# EAGLE library part CON_02X100 (library PP_Connectors)
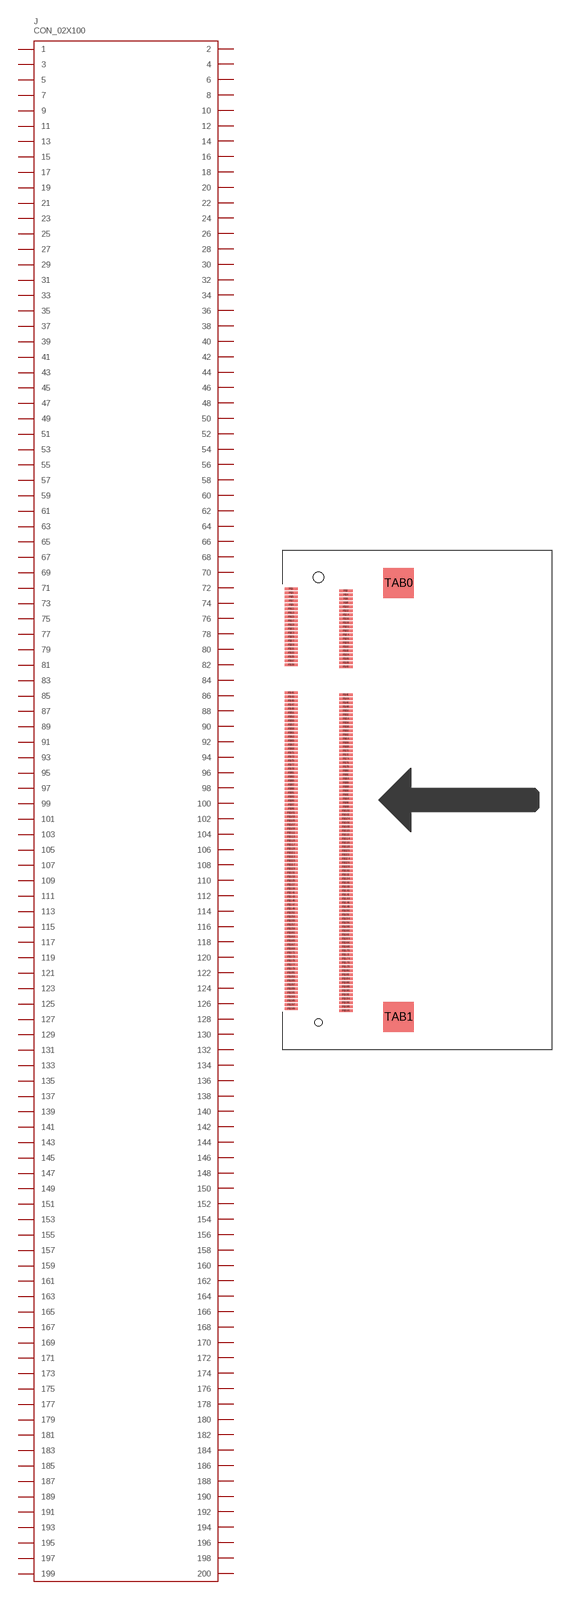
[diagram p25: symbol with the pads of 1473149-4; footprint 1473149-4]

Designator prefix J

## CON_02X100_1473149-4  [1473149-4]
P$1  1
P$2  2
P$3  3
P$4  4
P$5  5
P$6  6
P$7  7
P$8  8
P$9  9
P$10  10
P$11  11
P$12  12
P$13  13
P$14  14
P$15  15
P$16  16
P$17  17
P$18  18
P$19  19
P$20  20
P$21  21
P$22  22
P$23  23
P$24  24
P$25  25
P$26  26
P$27  27
P$28  28
P$29  29
P$30  30
P$31  31
P$32  32
P$33  33
P$34  34
P$35  35
P$36  36
P$37  37
P$38  38
P$39  39
P$40  40
P$41  41
P$42  42
P$43  43
P$44  44
P$45  45
P$46  46
P$47  47
P$48  48
P$49  49
P$50  50
P$51  51
P$52  52
P$53  53
P$54  54
P$55  55
P$56  56
P$57  57
P$58  58
P$59  59
P$60  60
P$61  61
P$62  62
P$63  63
P$64  64
P$65  65
P$66  66
P$67  67
P$68  68
P$69  69
P$70  70
P$71  71
P$72  72
P$73  73
P$74  74
P$75  75
P$76  76
P$77  77
P$78  78
P$79  79
P$80  80
P$81  81
P$82  82
P$83  83
P$84  84
P$85  85
P$86  86
P$87  87
P$88  88
P$89  89
P$90  90
P$91  91
P$92  92
P$93  93
P$94  94
P$95  95
P$96  96
P$97  97
P$98  98
P$99  99
P$100  100
P$101  101
P$102  102
P$103  103
P$104  104
P$105  105
P$106  106
P$107  107
P$108  108
P$109  109
P$110  110
P$111  111
P$112  112
P$113  113
P$114  114
P$115  115
P$116  116
P$117  117
P$118  118
P$119  119
P$120  120
P$121  121
P$122  122
P$123  123
P$124  124
P$125  125
P$126  126
P$127  127
P$128  128
P$129  129
P$130  130
P$131  131
P$132  132
P$133  133
P$134  134
P$135  135
P$136  136
P$137  137
P$138  138
P$139  139
P$140  140
P$141  141
P$142  142
P$143  143
P$144  144
P$145  145
P$146  146
P$147  147
P$148  148
P$149  149
P$150  150
P$151  151
P$152  152
P$153  153
P$154  154
P$155  155
P$156  156
P$157  157
P$158  158
P$159  159
P$160  160
P$161  161
P$162  162
P$163  163
P$164  164
P$165  165
P$166  166
P$167  167
P$168  168
P$169  169
P$170  170
P$171  171
P$172  172
P$173  173
P$174  174
P$175  175
P$176  176
P$177  177
P$178  178
P$179  179
P$180  180
P$181  181
P$182  182
P$183  183
P$184  184
P$185  185
P$186  186
P$187  187
P$188  188
P$189  189
P$190  190
P$191  191
P$192  192
P$193  193
P$194  194
P$195  195
P$196  196
P$197  197
P$198  198
P$199  199
P$200  200

## Footprint 1473149-4 (pad centres in mm)
smd 2 x 0.35: P$1 -4.1,31.65; P$2 4.1,31.35; P$3 -4.1,31.05; P$4 4.1,30.75; P$5 -4.1,30.45; P$6 4.1,30.15; P$7 -4.1,29.85; P$8 4.1,29.55; P$9 -4.1,29.25; P$10 4.1,28.95; P$11 -4.1,28.65; P$12 4.1,28.35; P$13 -4.1,28.05; P$14 4.1,27.75; P$15 -4.1,27.45; P$16 4.1,27.15; P$17 -4.1,26.85; P$18 4.1,26.55; P$19 -4.1,26.25; P$20 4.1,25.95; P$21 -4.1,25.65; P$22 4.1,25.35; P$23 -4.1,25.05; P$24 4.1,24.75; P$25 -4.1,24.45; P$26 4.1,24.15; P$27 -4.1,23.85; P$28 4.1,23.55; P$29 -4.1,23.25; P$30 4.1,22.95; P$31 -4.1,22.65; P$32 4.1,22.35; P$33 -4.1,22.05; P$34 4.1,21.75; P$35 -4.1,21.45; P$36 4.1,21.15; P$37 -4.1,20.85; P$38 4.1,20.55; P$39 -4.1,20.25; P$40 4.1,19.95; P$41 -4.1,16.05; P$42 4.1,15.75; P$43 -4.1,15.45; P$44 4.1,15.15; P$45 -4.1,14.85; P$46 4.1,14.55; P$47 -4.1,14.25; P$48 4.1,13.95; P$49 -4.1,13.65; P$50 4.1,13.35; P$51 -4.1,13.05; P$52 4.1,12.75; P$53 -4.1,12.45; P$54 4.1,12.15; P$55 -4.1,11.85; P$56 4.1,11.55; P$57 -4.1,11.25; P$58 4.1,10.95; P$59 -4.1,10.65; P$60 4.1,10.35; P$61 -4.1,10.05; P$62 4.1,9.75; P$63 -4.1,9.45; P$64 4.1,9.15; P$65 -4.1,8.85; P$66 4.1,8.55; P$67 -4.1,8.25; P$68 4.1,7.95; P$69 -4.1,7.65; P$70 4.1,7.35; P$71 -4.1,7.05; P$72 4.1,6.75; P$73 -4.1,6.45; P$74 4.1,6.15; P$75 -4.1,5.85; P$76 4.1,5.55; P$77 -4.1,5.25; P$78 4.1,4.95; P$79 -4.1,4.65; P$80 4.1,4.35; P$81 -4.1,4.05; P$82 4.1,3.75; P$83 -4.1,3.45; P$84 4.1,3.15; P$85 -4.1,2.85; P$86 4.1,2.55; P$87 -4.1,2.25; P$88 4.1,1.95; P$89 -4.1,1.65; P$90 4.1,1.35; P$91 -4.1,1.05; P$92 4.1,0.75; P$93 -4.1,0.45; P$94 4.1,0.15; P$95 -4.1,-0.15; P$96 4.1,-0.45; P$97 -4.1,-0.75; P$98 4.1,-1.05; P$99 -4.1,-1.35; P$100 4.1,-1.65; P$101 -4.1,-1.95; P$102 4.1,-2.25; P$103 -4.1,-2.55; P$104 4.1,-2.85; P$105 -4.1,-3.15; P$106 4.1,-3.45; P$107 -4.1,-3.75; P$108 4.1,-4.05; P$109 -4.1,-4.35; P$110 4.1,-4.65; P$111 -4.1,-4.95; P$112 4.1,-5.25; P$113 -4.1,-5.55; P$114 4.1,-5.85; P$115 -4.1,-6.15; P$116 4.1,-6.45; P$117 -4.1,-6.75; P$118 4.1,-7.05; P$119 -4.1,-7.35; P$120 4.1,-7.65; P$121 -4.1,-7.95; P$122 4.1,-8.25; P$123 -4.1,-8.55; P$124 4.1,-8.85; P$125 -4.1,-9.15; P$126 4.1,-9.45; P$127 -4.1,-9.75; P$128 4.1,-10.05; P$129 -4.1,-10.35; P$130 4.1,-10.65; P$131 -4.1,-10.95; P$132 4.1,-11.25; P$133 -4.1,-11.55; P$134 4.1,-11.85; P$135 -4.1,-12.15; P$136 4.1,-12.45; P$137 -4.1,-12.75; P$138 4.1,-13.05; P$139 -4.1,-13.35; P$140 4.1,-13.65; P$141 -4.1,-13.95; P$142 4.1,-14.25; P$143 -4.1,-14.55; P$144 4.1,-14.85; P$145 -4.1,-15.15; P$146 4.1,-15.45; P$147 -4.1,-15.75; P$148 4.1,-16.05; P$149 -4.1,-16.35; P$150 4.1,-16.65; P$151 -4.1,-16.95; P$152 4.1,-17.25; P$153 -4.1,-17.55; P$154 4.1,-17.85; P$155 -4.1,-18.15; P$156 4.1,-18.45; P$157 -4.1,-18.75; P$158 4.1,-19.05; P$159 -4.1,-19.35; P$160 4.1,-19.65; P$161 -4.1,-19.95; P$162 4.1,-20.25; P$163 -4.1,-20.55; P$164 4.1,-20.85; P$165 -4.1,-21.15; P$166 4.1,-21.45; P$167 -4.1,-21.75; P$168 4.1,-22.05; P$169 -4.1,-22.35; P$170 4.1,-22.65; P$171 -4.1,-22.95; P$172 4.1,-23.25; P$173 -4.1,-23.55; P$174 4.1,-23.85; P$175 -4.1,-24.15; P$176 4.1,-24.45; P$177 -4.1,-24.75; P$178 4.1,-25.05; P$179 -4.1,-25.35; P$180 4.1,-25.65; P$181 -4.1,-25.95; P$182 4.1,-26.25; P$183 -4.1,-26.55; P$184 4.1,-26.85; P$185 -4.1,-27.15; P$186 4.1,-27.45; P$187 -4.1,-27.75; P$188 4.1,-28.05; P$189 -4.1,-28.35; P$190 4.1,-28.65; P$191 -4.1,-28.95; P$192 4.1,-29.25; P$193 -4.1,-29.55; P$194 4.1,-29.85; P$195 -4.1,-30.15; P$196 4.1,-30.45; P$197 -4.1,-30.75; P$198 4.1,-31.05; P$199 -4.1,-31.35; P$200 4.1,-31.65
smd 4.6 x 4.5: TAB0 12,32.55; TAB1 12,-32.55
hole 1.6 at 0,33.4
hole 1.1 at 0,-33.4